# EAGLE library part TI_BQ24072 (library johnmamish-texas)
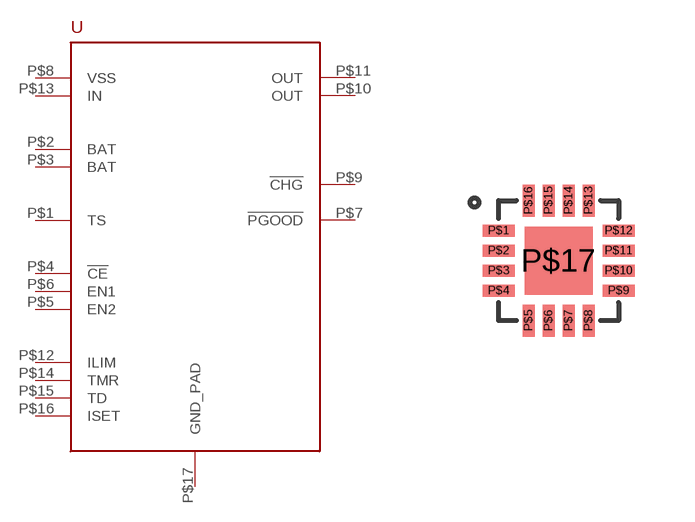
[diagram p2: symbol with the pads of TEXAS_INSTRUMENTS_S_PVQFN_N16; footprint TEXAS_INSTRUMENTS_S_PVQFN_N16]

Designator prefix -

## TI_BQ24072  [TEXAS_INSTRUMENTS_S_PVQFN_N16]
P$1  TS
P$2  BAT
P$3  BAT
P$4  !CE!
P$5  EN2
P$6  EN1
P$7  !PGOOD!
P$8  VSS
P$9  !CHG!
P$10  OUT
P$11  OUT
P$12  ILIM
P$13  IN
P$14  TMR
P$15  TD
P$16  ISET
P$17  GND_PAD

## Footprint TEXAS_INSTRUMENTS_S_PVQFN_N16 (pad centres in mm)
smd 0.8 x 0.3: P$1 0,0; P$2 0,-0.5; P$3 0,-1; P$4 0,-1.5; P$9 3,-1.5; P$10 3,-1; P$11 3,-0.5; P$12 3,0
smd 0.3 x 0.8: P$5 0.75,-2.25; P$6 1.25,-2.25; P$7 1.75,-2.25; P$8 2.25,-2.25; P$13 2.25,0.75; P$14 1.75,0.75; P$15 1.25,0.75; P$16 0.75,0.75
smd 1.7 x 1.7: P$17 1.5,-0.75